# EAGLE library part 74HC4052 (library Quynn)
Dual 4-Channel Analog Multiplexer
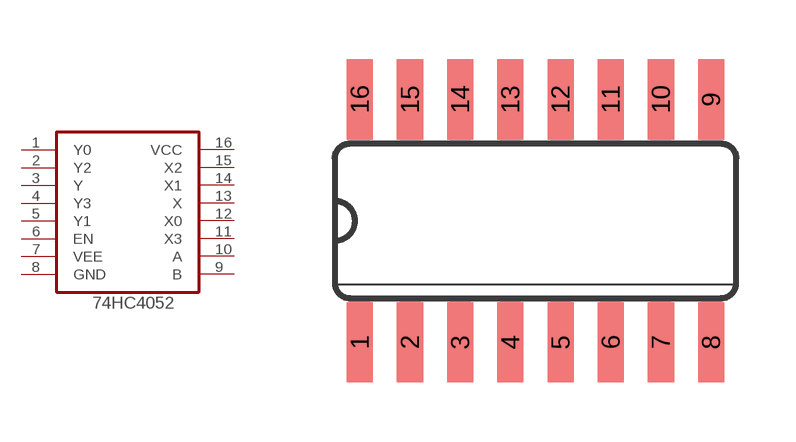
[diagram p2: symbol with the pads of SO16; footprint SO16]

Designator prefix -

## 74HC4052  [SO16]
1  Y0  hiz
2  Y2  in
3  Y  pwr
4  Y3  in
5  Y1  in
6  EN  in
7  VEE  in
8  GND  in
9  B  in
10  A  in
11  X3  pwr
12  X0  in
13  X  in
14  X1  in
15  X2  pwr
16  VCC  out

## Footprint SO16 (pad centres in mm)
Small Outline package 150 mil
smd 0.66 x 2.032: 1 -4.445,-3.073; 2 -3.175,-3.073; 3 -1.905,-3.073; 4 -0.635,-3.073; 5 0.635,-3.073; 6 1.905,-3.073; 7 3.175,-3.073; 8 4.445,-3.073; 9 4.445,3.073; 10 3.175,3.073; 11 1.905,3.073; 12 0.635,3.073; 13 -0.635,3.073; 14 -1.905,3.073; 15 -3.175,3.073; 16 -4.445,3.073